# Altium integrated library Zilog Microprocessor 32-Bit.IntLib: 3 symbols
Pins are listed as number, name and electrical type; pins without a type are passive.

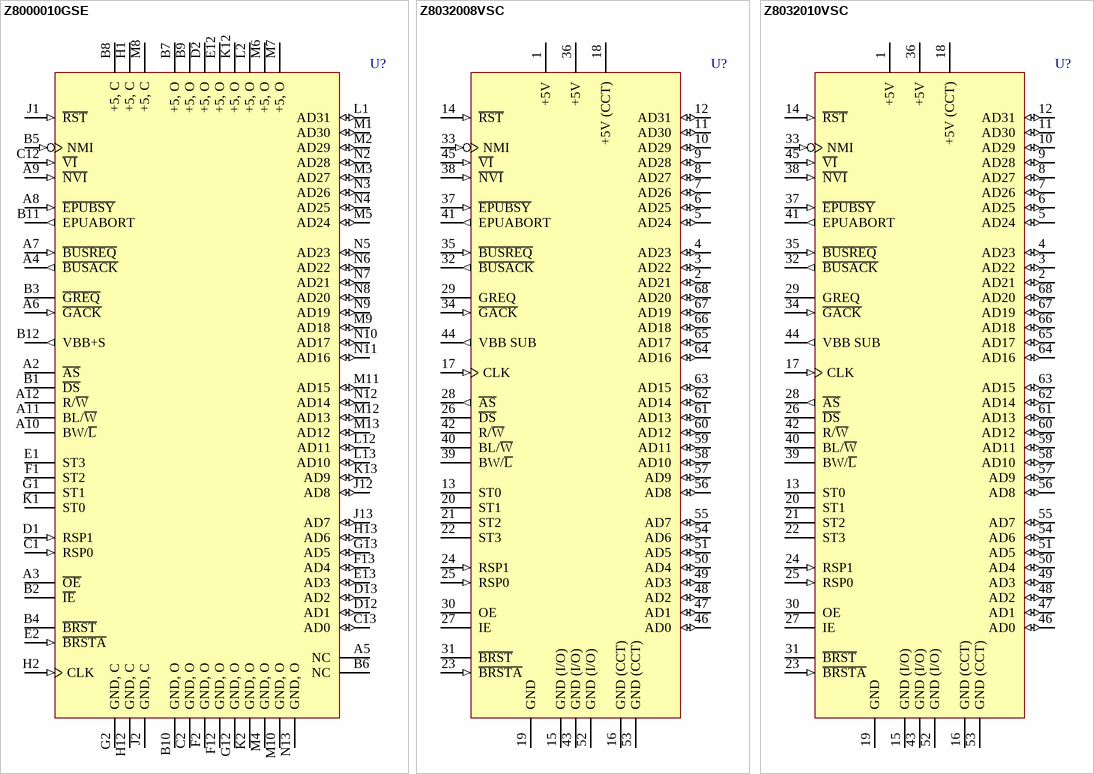
[diagram p0: symbols Z8000010GSE to Z8032010VSC]

## Z8000010GSE
designator U?
32-Bit Microprocessor; Published: 15-Apr-2002; LatestRevisionDate: 04-Mar-2005; LatestRevisionNote: Stylized 3D Model Added.; DatasheetVersion: Oct-1988; PackageReference: PGA84; Publisher: Altium Limited; PackageDescription: 84-Pin Pin Grid Array 2.54 mm Pitch; ComponentLink1Description: Manufacturer Link; ComponentLink1URL: http://www.zilog.com/
footprint PGA84 (PGA, 84-Leads, Body 34.4x34.4mm, Pitch 2.54mm)
3D model Z80000-PGA84 (84-Pin Pin Grid Array 2.54 mm Pitch)
pins: A2 ~{AS} (hiz), A3 ~{OE} (hiz), A4 ~{BUSACK} (out), A5 NC, A6 ~{GACK} (in), A7 ~{BUSREQ} (in), A8 ~{EPUBSY} (in), A9 ~{NVI} (in), A10 BW/~{L} (hiz), A11 BL/~{W} (hiz), A12 R/~{W} (hiz), B1 ~{DS} (hiz), B2 ~{IE} (hiz), B3 ~{GREQ} (hiz), B4 ~{BRST} (hiz), B5 NMI (in), B6 NC, B7 +5, O (power), B8 +5, C (power), B9 +5, O (power), B10 GND, O (power), B11 EPUABORT (out), B12 VBB+S (out), C1 RSP0 (in), C2 GND, O (power), C12 ~{VI} (in), C13 AD0 (io), D1 RSP1 (in), D2 +5, O (power), D12 AD1 (io), D13 AD2 (io), E1 ST3 (hiz), E2 ~{BRSTA} (in), E12 +5, O (power), E13 AD3 (io), F1 ST2 (hiz), F2 GND, O (power), F12 GND, O (power), F13 AD4 (io), G1 ST1 (hiz), G2 GND, C (power), G12 GND, O (power), G13 AD5 (io), H1 +5, C (power), H2 CLK (in), H12 GND, C (power), H13 AD6 (io), J1 ~{RST} (in), J2 GND, C (power), J12 AD8 (io), J13 AD7 (io), K1 ST0 (hiz), K2 GND, O (power), K12 +5, O (power), K13 AD9 (io), L1 AD31 (io), L2 +5, O (power), L12 AD11 (io), L13 AD10 (io), M1 AD30 (io), M2 AD29 (io), M3 AD27 (io), M4 GND, O (power), M5 AD24 (io), M6 +5, O (power), M7 +5, O (power), M8 +5, C (power), M9 AD18 (io), M10 GND, O (power), M11 AD15 (io), M12 AD13 (io), M13 AD12 (io), N2 AD28 (io), N3 AD26 (io), N4 AD25 (io), N5 AD23 (io), N6 AD22 (io), N7 AD21 (io), N8 AD20 (io), N9 AD19 (io), N10 AD17 (io), N11 AD16 (io), N12 AD14 (io), N13 GND, O (power)

## Z8032008VSC
designator U?
32-Bit Microprocessor; Published: 15-Apr-2002; LatestRevisionDate: 13-Apr-2006; LatestRevisionNote: IPC-7351 Footprint Added.; DatasheetVersion: Oct-1988; PackageReference: PCC68; Publisher: Altium Limited; PackageDescription: 68-Pin Leaded Chip Carrier 1.27 mm Pitch; Code_IPC: PLCC-68; ComponentLink1Description: Manufacturer Link; ComponentLink1URL: http://www.zilog.com/
footprint PCC68_N (Leaded Chip Carrier, 68-Leads, Body 24x24mm, Pitch 1.27mm, IPC Medium Density)
footprint PCC68_L (Leaded Chip Carrier, 68-Leads, Body 24x24mm, Pitch 1.27mm, IPC High Density)
footprint PCC68_M (Leaded Chip Carrier, 68-Leads, Body 24x24mm, Pitch 1.27mm, IPC Low Density)
3D model Z80320-PCC68 (68-Pin Leaded Chip Carrier 1.27 mm Pitch)
pins: 1 +5V (power), 2 AD21 (io), 3 AD22 (io), 4 AD23 (io), 5 AD24 (io), 6 AD25 (io), 7 AD26 (io), 8 AD27 (io), 9 AD28 (io), 10 AD29 (io), 11 AD30 (io), 12 AD31 (io), 13 ST0 (hiz), 14 ~{RST} (in), 15 GND (I/O) (power), 16 GND (CCT) (power), 17 CLK (in), 18 +5V (CCT) (power), 19 GND (power), 20 ST1 (hiz), 21 ST2 (hiz), 22 ST3 (hiz), 23 ~{BRSTA} (in), 24 RSP1 (in), 25 RSP0 (in), 26 ~{DS} (hiz), 27 IE (hiz), 28 ~{AS} (out), 29 GREQ (hiz), 30 OE (hiz), 31 ~{BRST} (hiz), 32 ~{BUSACK} (out), 33 NMI (in), 34 ~{GACK} (in), 35 ~{BUSREQ} (in), 36 +5V (power), 37 ~{EPUBSY} (in), 38 ~{NVI} (in), 39 BW/~{L} (hiz), 40 BL/~{W} (hiz), 41 EPUABORT (out), 42 R/~{W} (hiz), 43 GND (I/O) (power), 44 VBB SUB (out), 45 ~{VI} (in), 46 AD0 (io), 47 AD1 (io), 48 AD2 (io), 49 AD3 (io), 50 AD4 (io), 51 AD5 (io), 52 GND (I/O) (power), 53 GND (CCT) (power), 54 AD6 (io), 55 AD7 (io), 56 AD8 (io), 57 AD9 (io), 58 AD10 (io), 59 AD11 (io), 60 AD12 (io), 61 AD13 (io), 62 AD14 (io), 63 AD15 (io), 64 AD16 (io), 65 AD17 (io), 66 AD18 (io), 67 AD19 (io), 68 AD20 (io)

## Z8032010VSC
designator U?
32-Bit Microprocessor; Published: 15-Apr-2002; LatestRevisionDate: 13-Apr-2006; LatestRevisionNote: IPC-7351 Footprint Added.; DatasheetVersion: Oct-1988; PackageReference: PCC68; Publisher: Altium Limited; PackageDescription: 68-Pin Leaded Chip Carrier 1.27 mm Pitch; Code_IPC: PLCC-68; ComponentLink1Description: Manufacturer Link; ComponentLink1URL: http://www.zilog.com/
footprint PCC68_N (Leaded Chip Carrier, 68-Leads, Body 24x24mm, Pitch 1.27mm, IPC Medium Density)
footprint PCC68_L (Leaded Chip Carrier, 68-Leads, Body 24x24mm, Pitch 1.27mm, IPC High Density)
footprint PCC68_M (Leaded Chip Carrier, 68-Leads, Body 24x24mm, Pitch 1.27mm, IPC Low Density)
3D model Z80320-PCC68 (68-Pin Leaded Chip Carrier 1.27 mm Pitch)
pins: 1 +5V (power), 2 AD21 (io), 3 AD22 (io), 4 AD23 (io), 5 AD24 (io), 6 AD25 (io), 7 AD26 (io), 8 AD27 (io), 9 AD28 (io), 10 AD29 (io), 11 AD30 (io), 12 AD31 (io), 13 ST0 (hiz), 14 ~{RST} (in), 15 GND (I/O) (power), 16 GND (CCT) (power), 17 CLK (in), 18 +5V (CCT) (power), 19 GND (power), 20 ST1 (hiz), 21 ST2 (hiz), 22 ST3 (hiz), 23 ~{BRSTA} (in), 24 RSP1 (in), 25 RSP0 (in), 26 ~{DS} (hiz), 27 IE (hiz), 28 ~{AS} (out), 29 GREQ (hiz), 30 OE (hiz), 31 ~{BRST} (hiz), 32 ~{BUSACK} (out), 33 NMI (in), 34 ~{GACK} (in), 35 ~{BUSREQ} (in), 36 +5V (power), 37 ~{EPUBSY} (in), 38 ~{NVI} (in), 39 BW/~{L} (hiz), 40 BL/~{W} (hiz), 41 EPUABORT (out), 42 R/~{W} (hiz), 43 GND (I/O) (power), 44 VBB SUB (out), 45 ~{VI} (in), 46 AD0 (io), 47 AD1 (io), 48 AD2 (io), 49 AD3 (io), 50 AD4 (io), 51 AD5 (io), 52 GND (I/O) (power), 53 GND (CCT) (power), 54 AD6 (io), 55 AD7 (io), 56 AD8 (io), 57 AD9 (io), 58 AD10 (io), 59 AD11 (io), 60 AD12 (io), 61 AD13 (io), 62 AD14 (io), 63 AD15 (io), 64 AD16 (io), 65 AD17 (io), 66 AD18 (io), 67 AD19 (io), 68 AD20 (io)